# Altium footprint library PcbLib1.PcbLib: 18 footprints (part 2 of 2)
Each footprint in its own frame and in the unit in brackets; x right, y up, seen from the top. Pads: shape width x height; smd on the part's side, far side on the other; paste and mask are expansions set on the pad; w line width, h text height; cw(c..) or ccw(c..) is an arc to the next point about the centre after c.
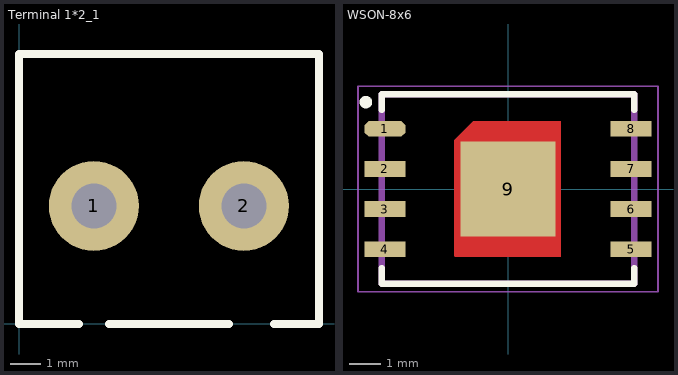
[diagram p1: the footprints below, top view; thin cyan lines are the x and y axes]

## Terminal 1*2_1 [mm]
pads (2):
  round 3 hole 1.5: 1(2.493,3.937) 2(7.493,3.937)
Top Overlay:
  lines w0.254: 2,0 0,0 0,9 10,9 10,0 8.5,0 ; 3,0 7,0

## WSON-8x6 [mm]
pads (9):
  oct 1.3x0.5 smd: 1(-3.895,1.905)
  rect 1.3x0.5 smd: 2(-3.895,0.635) 3(-3.895,-0.635) 4(-3.895,-1.905) 5(3.895,-1.905) 6(3.895,-0.635) 7(3.895,0.635) 8(3.895,1.905)
  rect 3x3 smd paste-3: 9(0,0)
Top Layer:
  region: 1.675,2.15 1.675,-2.15 -1.675,-2.15 -1.7,-2.125 -1.7,1.55 -1.1,2.15
Top Overlay:
  circle w0.2: c-4.5,2.75 r0.1
  lines w0.2: -4,-2.5 -4,-3 4,-3 4,-2.5 ; -4,2.5 -4,3 4,3 4,2.5
Top Paste:
  region: 1.075,-1.351 -1.076,-1.351 -1.076,1.35 1.075,1.35
Mechanical 13:
  lines w0.2: -4,-3 4,-3 4,3 -4,3 -4,-3
Mechanical 15:
  lines w0.05: -4.75,-3.25 4.75,-3.25 4.75,3.25 -4.75,3.25 -4.75,-3.25
3D body "step_temp.STEP": height 0.75, standoff -0.05, extent -4,-3 4,3